# Altium schematic symbol library SCH - POWER - SWITCHMODE - TI TPS565208DDC.SchLib: 1 symbol
Pins are listed as number, name and electrical type; pins without a type are passive.

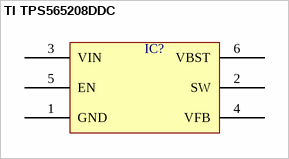
[diagram p0: symbol TI TPS565208DDC]

## TI TPS565208DDC
designator IC?  (value not drawn)
pins: 1 GND, 2 SW, 3 VIN, 4 VFB, 5 EN, 6 VBST